# Altium schematic symbol library 4G.SchLib: 74 symbols
Pins are listed as number, name and electrical type; pins without a type are passive.

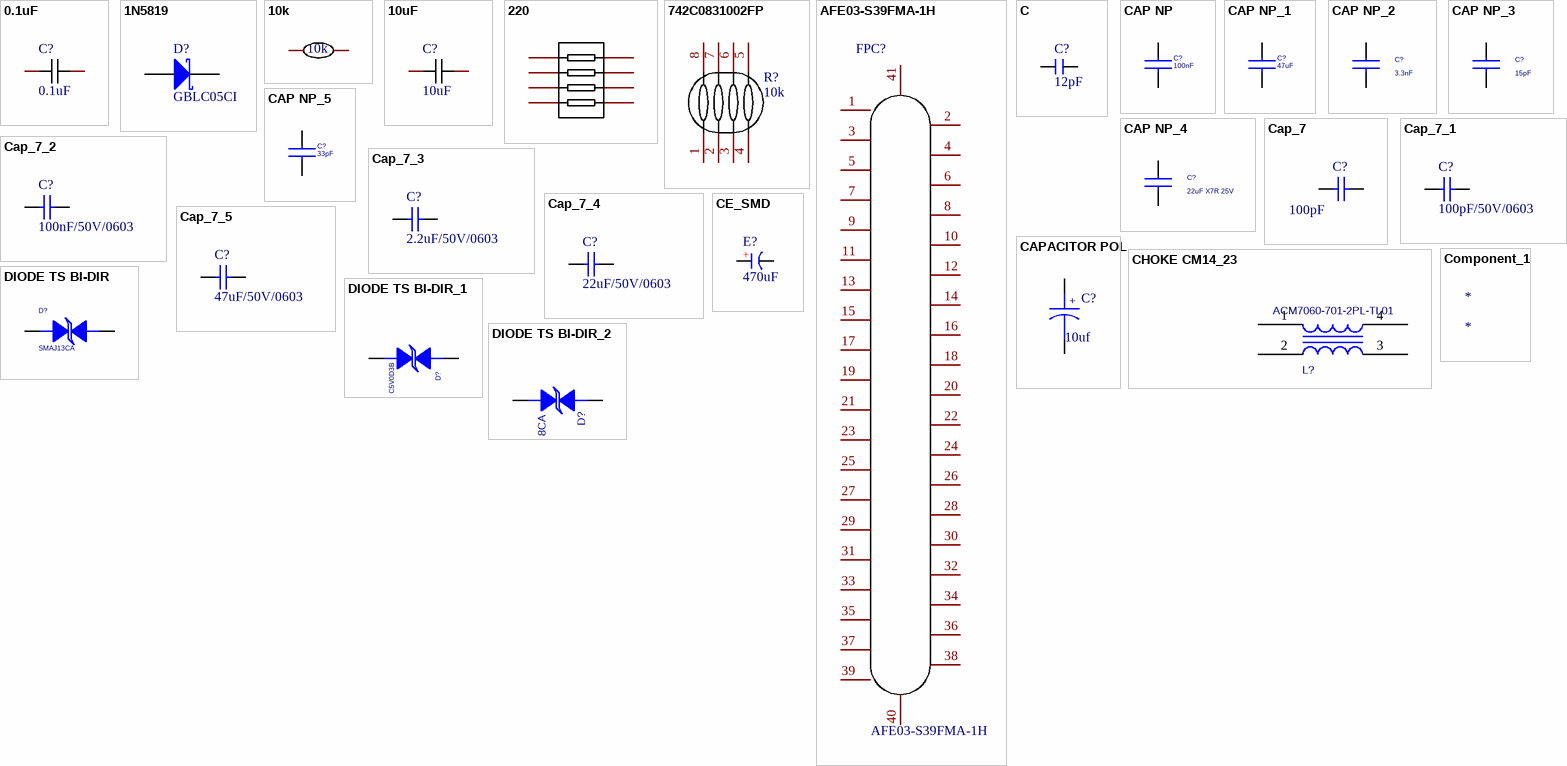
[diagram p0: symbols 0.1uF to DIODE TS BI-DIR_2]

## 0.1uF
designator C?
Add into BOM: yes; Origin Footprint: C0603; Symbol: 0.1uF; Device: 0.1uF; Convert to PCB: yes; Name: 0.1uF
footprint C 0603_L (无极性贴片电容                                       淘宝ID:黄晶宝石)
pins: 1, 2

## 1N5819
designator D?, comment GBLC05CI
肖特基二极管; 淘宝ID: 封装库来自淘宝 ID：黄晶宝石; 属性: 40V/2A; BOM名称: 肖特基二极管; 欢迎光临: https://shop463601444.taobao.com
footprint SOD-323 (1.8x1.3X0.9mm（长宽高，不包括引脚）)
footprint SOD-323 (1.8x1.3X0.9mm（长宽高，不包括引脚）)
pins: 1 A, 2 K

## 10k
designator R?
Symbol: 10k_2; Add into BOM: yes; Origin Footprint: R0603; Name: 10k; Device: 10k; Convert to PCB: yes
footprint R 0603_L (1/10W贴片电阻                 淘宝ID:黄晶宝石)
pins: 1, 2

## 10uF
designator C?
Add into BOM: yes; Origin Footprint: C0805; Name: 10uF; Symbol: 10uF; Device: 10uF; Convert to PCB: yes
footprint C 0603_L (无极性贴片电容                                       淘宝ID:黄晶宝石)
pins: 1, 2

## 220
designator RN?  (value not drawn)
Manufacturer: UniOhm; Manufacturer Part: 4D03WGJ0221T5E; Add into BOM: yes; Origin Footprint: RES-ARRAY-SMD_0603-8P-L3.2-W1.6-BL; Name: 220; Symbol: 220; Device: 220; Convert to PCB: yes; Supplier: LCSC; Supplier Part: C29719; JLCPCB Part Class: Extended Part
footprint RCA-8P4R-0603 (3.2mm*1.6mm*0.6mm(长*宽*厚))
pins: 1, 2, 3, 4, 5, 6, 7, 8

## 742C0831002FP
designator R?  value 10k  (hidden comment: 742C0831002FP)
阻值:10k;精度:±1%;单个元件功率:63mW;温度系数:±200ppm/;电阻器数:4;引脚数:8;; Manufacturer: CTS(西迪斯); Add into BOM: yes; Tolerance: ±1%; Power(Watts): 63mW; Number of Resistors: 4; Symbol: 742C0831002FP; Device: 742C0831002FP; LCSC Part Name: 10k ±1%; Supplier Part: C1848571; Manufacturer Part: 742C0831002FP; Supplier Footprint: 0603; Datasheet: https://atta.szlcsc.com/upload/public/pdf/source/20210503/EA698ADAEE513162139F7667D383C0D0.pdf; Supplier: LCSC; Convert to PCB: yes; Temperature Coefficient: ±200ppm/; Number of Pins: 8; JLCPCB Part Class: Extended Part
footprint RCA-8P4R-0603 (3.2mm*1.6mm*0.6mm(长*宽*厚))
pins: 1, 2, 3, 4, 5, 6, 7, 8

## AFE03-S39FMA-1H
designator FPC?
间距:0.3mm;触点数量:39;锁定特性:翻盖式;安装类型:卧贴;触点类型:下接;; Manufacturer: JS(钜硕电子); Add into BOM: yes; Pitch: 0.3mm; Number of Contacts: 39; Locking Feature: 翻盖式; FFC, FCB Thickness: 0.2mm; Name: AFE03-S39FMA-1H; Symbol: AFE03-S39FMA-1H; Device: AFE03-S39FMA-1H; LCSC Part Name: 0.3mm P数:39 翻盖式 下接; Supplier Part: C262546; Manufacturer Part: AFE03-S39FMA-1H; Supplier Footprint: SMD,P=0.3mm; Datasheet: https://atta.szlcsc.com/upload/public/pdf/source/20180810/C262546_FD07BEB9163FBD4C911947212CF39B0D.pdf; Supplier: LCSC; Convert to PCB: yes; Mounting Type: 卧贴; Contact Type: 下接; Height Above Board: 1mm
footprint FPC-SMD_P0.30-39P_FGS-XJ-H1.0
3D model FPC-SMD_P0.30-39P_FGS-XJ-H1.0
pins: 1, 2, 3, 4, 5, 6, 7, 8, 9, 10, 11, 12, 13, 14, 15, 16, 17, 18, 19, 20, 21, 22, 23, 24, 25, 26, 27, 28, 29, 30, 31, 32, 33, 34, 35, 36, 37, 38, 39, 40, 41

## C
designator C?, comment 12pF
贴片电容; BOM名称: 无极性贴片电容; 淘宝ID: 封装库来自淘宝 ID：黄晶宝石; 联系售后: https://shop463601444.taobao.com
footprint C 0201_L (无极性贴片电容)
footprint C 0402_L (无极性贴片电容)
footprint C 0603_L (无极性贴片电容)
footprint C 0805_L (无极性贴片电容)
footprint C 1206_L (无极性贴片电容)
footprint C 1210_L (无极性贴片电容)
footprint C 1808_L (无极性贴片电容)
footprint C 1812_L (无极性贴片电容)
footprint C 1825_L (无极性贴片电容)
footprint C 2225_L (无极性贴片电容)
footprint C 0201_M (无极性贴片电容)
footprint C 0402_M (无极性贴片电容)
footprint C 0603_M (无极性贴片电容)
footprint C 0805_M (无极性贴片电容)
footprint C 1206_M (无极性贴片电容)
footprint C 1210_M (无极性贴片电容)
footprint C 1808_M (无极性贴片电容)
footprint C 1812_M (无极性贴片电容)
footprint C 1825_M (无极性贴片电容)
footprint C 2225_M (无极性贴片电容)
pins: 1, 2

## CAP NP
designator C?, comment 100nF
Part Number: CAPC0402; ROOM: Modem
footprint C 0603_L (无极性贴片电容                                       淘宝ID:黄晶宝石)
pins: 1, 2

## CAP NP_1
designator C?, comment 47uF
Part Number: CAPC0805; ROOM: Modem
footprint C 0603_L (无极性贴片电容                                       淘宝ID:黄晶宝石)
pins: 1, 2

## CAP NP_2
designator C?, comment 3.3nF
Part Number: CAPC0402; ROOM: DC/DC_3V8
footprint C 0603_L (无极性贴片电容                                       淘宝ID:黄晶宝石)
pins: 1, 2

## CAP NP_3
designator C?, comment 15pF
Part Number: CAPC0402; ROOM: DC/DC_3V8
footprint C 0603_L (无极性贴片电容                                       淘宝ID:黄晶宝石)
pins: 1, 2

## CAP NP_4
designator C?, comment 22uF X7R 25V
Part Number: CAPC0805
footprint C 0603_L (无极性贴片电容                                       淘宝ID:黄晶宝石)
footprint C 1210_L (无极性贴片电容                                淘宝ID:黄晶宝石)
pins: 1, 2

## CAP NP_5
designator C?, comment 33pF
Part Number: CAPC0402; ROOM: Modem
footprint C 0603_L (无极性贴片电容                                       淘宝ID:黄晶宝石)
footprint C 0603_L
pins: 1, 2

## Cap_7
designator C?, comment 100pF
Capacitor; Value: 0.1uF/25V/X5R; Published: 8-Jun-2000; LatestRevisionDate: 17-Jul-2002; LatestRevisionNote: Re-released for DXP Platform.; PackageReference: RAD-0.3; Publisher: Altium Limited; PackageDescription: Radial Cap, Thru-Hole; 2 Leads; 0.3 in Pin Spacing
simulation model CAP (Capacitor)
signal-integrity model Cap
footprint C 0603_L (无极性贴片电容                                       淘宝ID:黄晶宝石)
pins: 1, 2

## Cap_7_1
designator C?, comment 100pF/50V/0603
Capacitor; Value: 0.1uF/25V/X5R; Published: 8-Jun-2000; LatestRevisionDate: 17-Jul-2002; LatestRevisionNote: Re-released for DXP Platform.; PackageReference: RAD-0.3; Publisher: Altium Limited; PackageDescription: Radial Cap, Thru-Hole; 2 Leads; 0.3 in Pin Spacing
simulation model CAP (Capacitor)
signal-integrity model Cap
footprint C 0603_L (无极性贴片电容                                       淘宝ID:黄晶宝石)
pins: 1, 2

## Cap_7_2
designator C?, comment 100nF/50V/0603
Capacitor; Value: 0.1uF/25V/X5R; Published: 8-Jun-2000; LatestRevisionDate: 17-Jul-2002; LatestRevisionNote: Re-released for DXP Platform.; PackageReference: RAD-0.3; Publisher: Altium Limited; PackageDescription: Radial Cap, Thru-Hole; 2 Leads; 0.3 in Pin Spacing
simulation model CAP (Capacitor)
signal-integrity model Cap
footprint C 0603_L (无极性贴片电容                                       淘宝ID:黄晶宝石)
pins: 1, 2

## Cap_7_3
designator C?, comment 2.2uF/50V/0603
Capacitor; Value: 0.1uF/25V/X5R; Published: 8-Jun-2000; LatestRevisionDate: 17-Jul-2002; LatestRevisionNote: Re-released for DXP Platform.; PackageReference: RAD-0.3; Publisher: Altium Limited; PackageDescription: Radial Cap, Thru-Hole; 2 Leads; 0.3 in Pin Spacing
simulation model CAP (Capacitor)
signal-integrity model Cap
footprint C 0603_L (无极性贴片电容                                       淘宝ID:黄晶宝石)
pins: 1, 2

## Cap_7_4
designator C?, comment 22uF/50V/0603
Capacitor; Value: 0.1uF/25V/X5R; Published: 8-Jun-2000; LatestRevisionDate: 17-Jul-2002; LatestRevisionNote: Re-released for DXP Platform.; PackageReference: RAD-0.3; Publisher: Altium Limited; PackageDescription: Radial Cap, Thru-Hole; 2 Leads; 0.3 in Pin Spacing
simulation model CAP (Capacitor)
signal-integrity model Cap
footprint C 0603_L (无极性贴片电容                                       淘宝ID:黄晶宝石)
pins: 1, 2

## Cap_7_5
designator C?, comment 47uF/50V/0603
Capacitor; Value: 0.1uF/25V/X5R; Published: 8-Jun-2000; LatestRevisionDate: 17-Jul-2002; LatestRevisionNote: Re-released for DXP Platform.; PackageReference: RAD-0.3; Publisher: Altium Limited; PackageDescription: Radial Cap, Thru-Hole; 2 Leads; 0.3 in Pin Spacing
simulation model CAP (Capacitor)
signal-integrity model Cap
footprint C 0603_L (无极性贴片电容                                       淘宝ID:黄晶宝石)
footprint C 0805_L (无极性贴片电容                                        淘宝ID:黄晶宝石)
footprint C 1210_L (无极性贴片电容                                淘宝ID:黄晶宝石)
pins: 1, 2

## CAPACITOR POL
designator C?, comment 10uf
Capacitor
footprint C 1210_M (无极性贴片电容                                         淘宝ID:黄晶宝石)
pins: 1, 2
text: +

## CE_SMD
designator E?, comment 470uF
贴片电解电容; 版权归属: 封装库来自淘宝 ID：黄晶宝石; BOM名称: 贴片电解电容; 联系售后: https://shop463601444.taobao.com
footprint CM A(3*5.4) (贴片电解电容，直径3mm，高5.4mm)
footprint CM B(4*5.4) (贴片电解电容，直径4mm，高5.4mm)
footprint CM C(5*5.4) (贴片电解电容，直径5mm，高5.4mm)
footprint CM D(6.3*5.4) (贴片电解电容，直径6.3mm，高5.4mm)
footprint CM D(6.3*7.7) (贴片电解电容，直径6.3mm，高7.7mm)
footprint CM E(8*6.2) (贴片电解电容，直径8mm，高6.2mm)
footprint CM E(8*10.2) (贴片电解电容，直径8mm，高10.2mm)
footprint CM F(10*10.2) (贴片电解电容，直径10mm，高10.2mm)
footprint CM G(12.5*13.5) (贴片电解电容，直径12.5mm，高13.5mm)
footprint CM G(12.5*16) (贴片电解电容，直径12.5mm，高16mm)
footprint CM H(16*16.5) (贴片电解电容，直径16mm，高16.5mm)
pins: 1 A, 2 K
text: +

## CHOKE CM14_23
designator L?, comment ACM7060-701-2PL-TL01
ROOM: VIN; Part Number: ACM7060-701-2PL-TL01
footprint ACM7060
pins: 1, 2, 3 4, 4 3

## Component_1
designator *

## DIODE TS BI-DIR
designator D?, comment SMAJ13CA
ROOM: VIN; Part Number: SMAJ13CA
footprint sma
pins: 1, 2

## DIODE TS BI-DIR_1
designator D?, comment ESDLC5V0D3B
Part Number: SMAJ13CA; ROOM: VIN
footprint SOD-323 (1.8x1.3X0.9mm（长宽高，不包括引脚）)
pins: 1, 2

## DIODE TS BI-DIR_2
designator D?, comment SMBJ18CA
这个很容易坏; Part Number: SMAJ13CA; ROOM: VIN
footprint SMA-1
footprint smb (4.7*3.9*2.2mm(长宽高，不包括引脚）)
pins: 1, 2

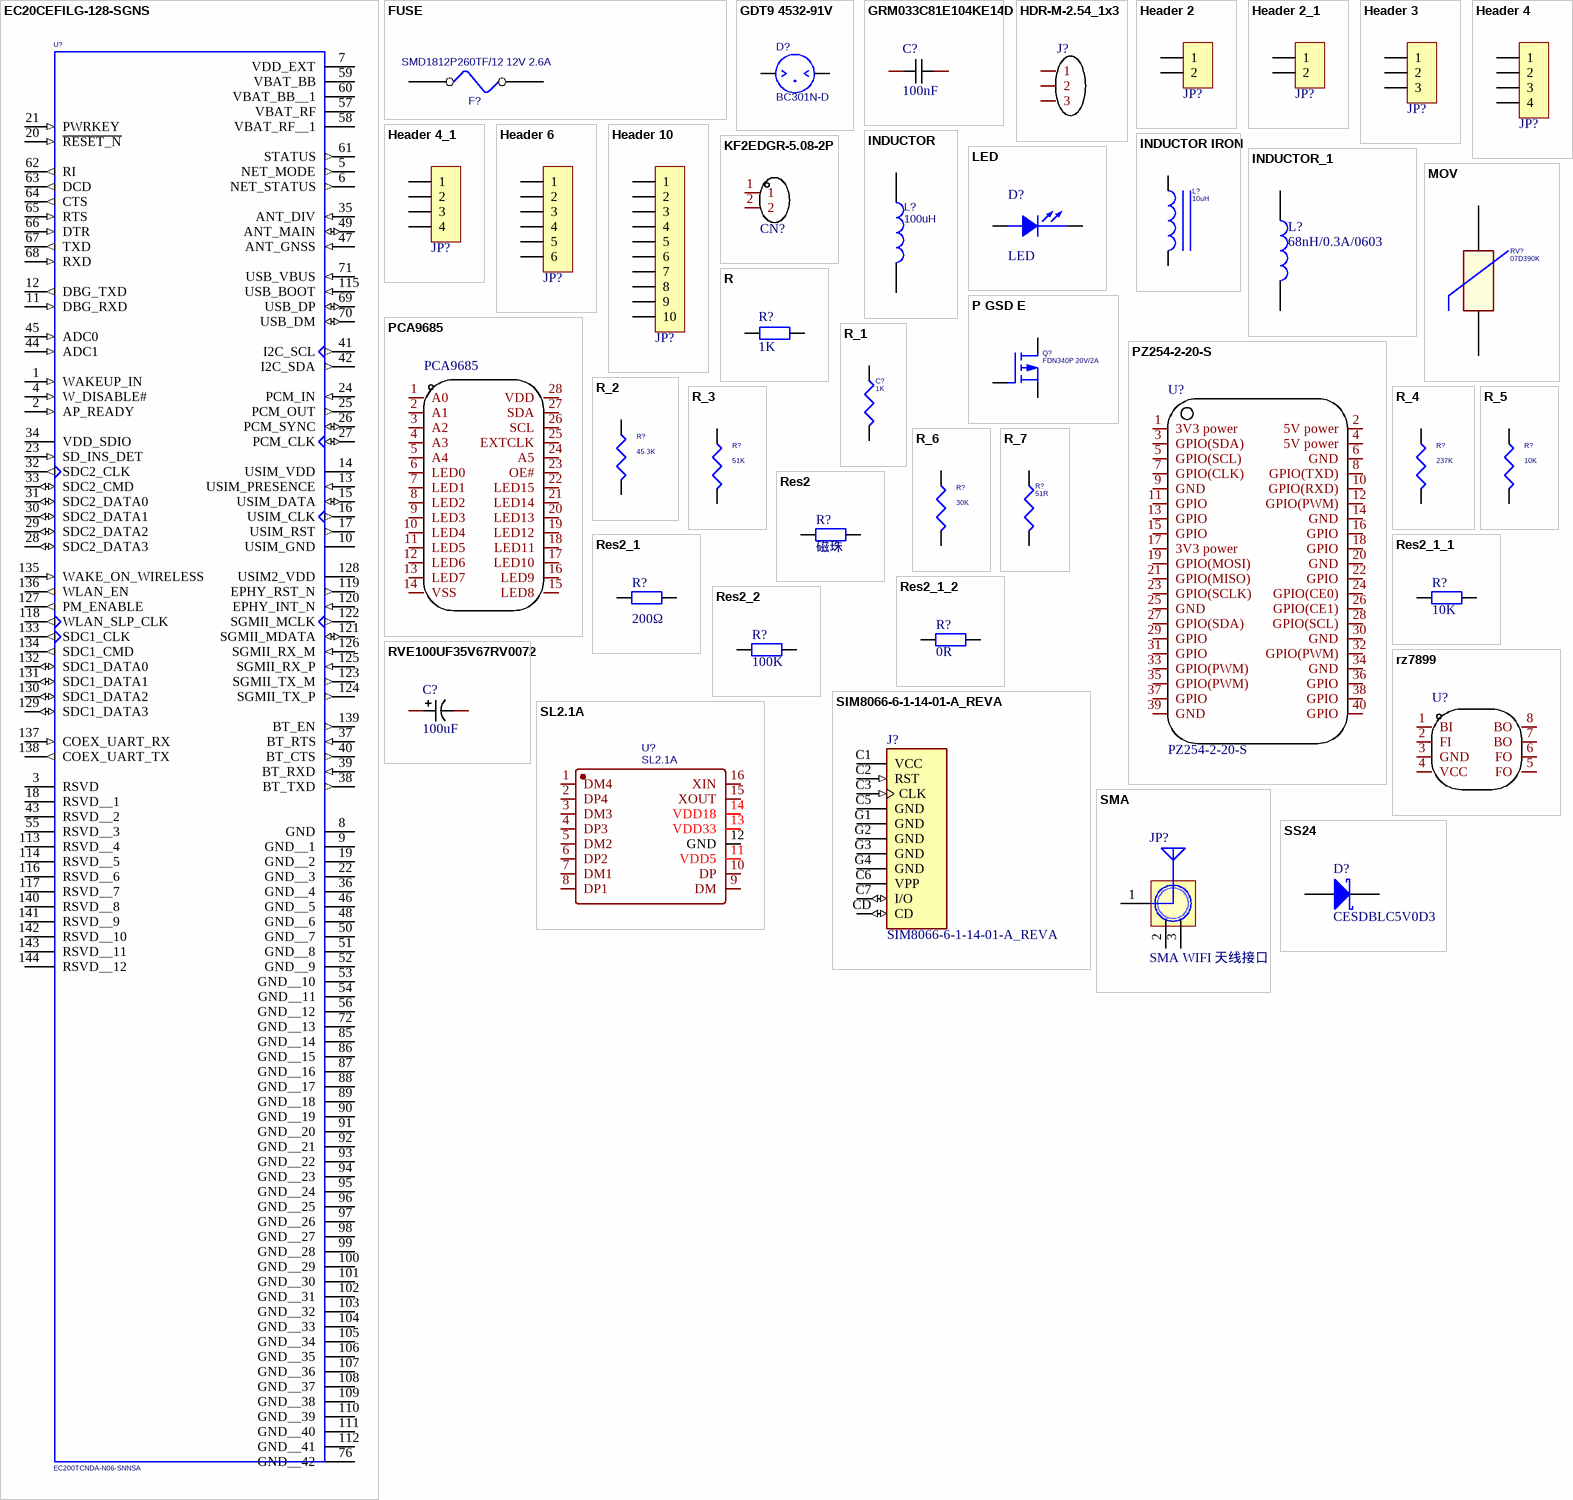
[diagram p1: symbols EC20CEFILG-128-SGNS to SS24]

## EC20CEFILG-128-SGNS
designator U?, comment EC200TCNDA-N06-SNNSA
Quectel EC25 is a series of LTE Cat 4 module optimized specially for M2M and IoT applications.; Part Number: EC20CEFILG-128-SGNS; OriginalSymbolOrigin: (-90000,250000); MP: EC25-AU; ROOM: Modem; Price: None; Package: None; MF: Quectel; Availability: Unavailable
footprint EC200U (贴片电解电容，直径6.3mm，高5.4mm)
pins: 1 WAKEUP_IN (in), 2 AP_READY (in), 3 RSVD, 4 W_DISABLE# (in), 5 NET_MODE (out), 6 NET_STATUS (out), 7 VDD_EXT (power), 8 GND (power), 9 GND__1 (power), 10 USIM_GND (power), 11 DBG_RXD (in), 12 DBG_TXD (out), 13 USIM_PRESENCE (in), 14 USIM_VDD (power), 15 USIM_DATA (io), 16 USIM_CLK (out), 17 USIM_RST (out), 18 RSVD__1, 19 GND__2 (power), 20 ~{RESET_N} (in), 21 PWRKEY (in), 22 GND__3 (power), 23 SD_INS_DET (in), 24 PCM_IN (in), 25 PCM_OUT (out), 26 PCM_SYNC (io), 27 PCM_CLK (io), 28 SDC2_DATA3 (io), 29 SDC2_DATA2 (io), 30 SDC2_DATA1 (io), 31 SDC2_DATA0 (io), 32 SDC2_CLK (out), 33 SDC2_CMD (io), 34 VDD_SDIO (power), 35 ANT_DIV (in), 36 GND__4 (power), 37 BT_RTS (in), 38 BT_TXD (out), 39 BT_RXD (in), 40 BT_CTS (out), 41 I2C_SCL (out), 42 I2C_SDA (out), 43 RSVD__2, 44 ADC1 (in), 45 ADC0 (in), 46 GND__5 (power), 47 ANT_GNSS (in), 48 GND__6 (power), 49 ANT_MAIN (io), 50 GND__7 (power), 51 GND__8 (power), 52 GND__9 (power), 53 GND__10 (power), 54 GND__11 (power), 55 RSVD__3, 56 GND__12 (power), 57 VBAT_RF (power), 58 VBAT_RF__1 (power), 59 VBAT_BB (power), 60 VBAT_BB__1 (power), 61 STATUS (out), 62 RI (out), 63 DCD (out), 64 CTS (out), 65 RTS (in), 66 DTR (in), 67 TXD (out), 68 RXD (in), 69 USB_DP (io), 70 USB_DM (io), 71 USB_VBUS (in), 72 GND__13 (power), 76 GND__42 (power), 85 GND__14 (power), 86 GND__15 (power), 87 GND__16 (power), 88 GND__17 (power), 89 GND__18 (power), 90 GND__19 (power), 91 GND__20 (power), 92 GND__21 (power), 93 GND__22 (power), 94 GND__23 (power), 95 GND__24 (power), 96 GND__25 (power), 97 GND__26 (power), 98 GND__27 (power), 99 GND__28 (power), 100 GND__29 (power), 101 GND__30 (power), 102 GND__31 (power), 103 GND__32 (power), 104 GND__33 (power), 105 GND__34 (power), 106 GND__35 (power), 107 GND__36 (power), 108 GND__37 (power), 109 GND__38 (power), 110 GND__39 (power), 111 GND__40 (power), 112 GND__41 (power), 113 RSVD__4, 114 RSVD__5, 115 USB_BOOT (in), 116 RSVD__6, 117 RSVD__7, 118 WLAN_SLP_CLK (out), 119 EPHY_RST_N (out), 120 EPHY_INT_N (in), 121 SGMII_MDATA (io), 122 SGMII_MCLK (out), 123 SGMII_TX_M (out), 124 SGMII_TX_P (out), 125 SGMII_RX_P (in), 126 SGMII_RX_M (in), 127 PM_ENABLE (out), 128 USIM2_VDD (power), 129 SDC1_DATA3 (io), 130 SDC1_DATA2 (io), 131 SDC1_DATA1 (io), 132 SDC1_DATA0 (io), 133 SDC1_CLK (out), 134 SDC1_CMD (out), 135 WAKE_ON_WIRELESS (in), 136 WLAN_EN (out), 137 COEX_UART_RX (in), 138 COEX_UART_TX (out), 139 BT_EN (out), 140 RSVD__8, 141 RSVD__9, 142 RSVD__10, 143 RSVD__11, 144 RSVD__12

## FUSE
designator F?, comment SMD1812P260TF/12 12V 2.6A
ROOM: VIN; Part Number: SMD1812P260TF/12
footprint resc4532x110n
footprint FU 1812 (贴片保险丝          淘宝ID:黄晶宝石)
pins: 1, 2

## GDT9 4532-91V
designator D?, comment BC301N-D
footprint GDT9-4532-91V-LF
footprint GDT-SMD
footprint GDT-SMD
pins: 1, 2

## GRM033C81E104KE14D
designator C?  value 100nF  (hidden comment: GRM033C81E104KE14D)
Manufacturer: muRata(村田); Add into BOM: yes; Tolerance: ±10%; Voltage Rated: 25V; Temperature Coefficient: X6S; Symbol: GRM033C81E104KE14D; Device: GRM033C81E104KE14D; LCSC Part Name: 100nF ±10% 25V; Supplier Part: C181047; Manufacturer Part: GRM033C81E104KE14D; Supplier Footprint: 0201; JLCPCB Part Class: Extended Part; Datasheet: https://atta.szlcsc.com/upload/public/pdf/source/20190505/C181047_36981D841DC23B79CCB6797818D1B5CF.pdf; Supplier: LCSC; Convert to PCB: yes
footprint C 0603_L (无极性贴片电容                                       淘宝ID:黄晶宝石)
pins: 1, 2

## HDR-M-2.54_1x3
designator J?  (value not drawn)
Add into BOM: yes; Name: HDR-M-2.54_1x3; Symbol: HDR-M-2.54_1x3; Device: HDR-M-2.54_1x3; Convert to PCB: yes; Origin Footprint: HDR-M-2.54_1X3; Supplier Part: C180248; Supplier: LCSC
footprint HDR2.54-LI-3P (排针，3脚)
pins: 1, 2, 3

## Header 2
designator JP?, comment HDR-1X2  (value not drawn)
2P接插件; 版权归属: 封装库来自淘宝 ID：黄晶宝石; BOM名称: 2P接插件; 联系售后: https://shop463601444.taobao.com
footprint XH2.54-WI-2P (接插件，2P)
footprint XH2.54-LI-2P (接插件，2P)
footprint HDR2.54-LI-2P (排针，2脚)
footprint HDR2.54-M-LI-2P (排母，2脚)
footprint HDR2.54-WI-2P (弯脚排针，2脚)
footprint HDR2.54-WS-2P (2P卧式贴片排针2.54)
footprint HDR2.54-Y-LI-2P (圆孔排母，2脚)
footprint HDR2.54-M-WS-2P (2P卧式贴片排母2.54)
footprint KF2510-LI-2P (接插件/2A)
footprint XH2.54-WS-2P (长：10mm，宽：8mm，高：6.1mm)
footprint XH2.54-LS-2P (长：10mm，宽：6mm，高：8.3mm)
footprint KF2EDGK-2.54-LI-2P (长：6.93mm，宽：8.1mm，高：10.1mm)
footprint KF2EDGK-2.54-WI-2P (长：6.93mm，宽：10.1mm，高：8.1mm)
pins: 1, 2

## Header 2_1
designator JP?, comment HDR-1X2  (value not drawn)
2P接插件; 版权归属: 封装库来自淘宝 ID：黄晶宝石; BOM名称: 2P接插件; 联系售后: https://shop463601444.taobao.com
footprint MX 1.25-WI-2P (长：4.25mm，宽：1.8mm，高：3.3mm)
footprint MX 1.25-LI-2P (长：4.25mm，宽：3.2mm，高：4.2mm)
footprint MX 1.25-WS-2P (长：7.65mm，宽：4.2mm，高：3.4mm)
footprint MX 1.25-LS-2P (长：7.25m，宽：3.7mm，高：4.7mm)
footprint GH1.25-2P
footprint XH2.54-LI-2P (接插件，2P  淘宝ID:黄晶宝石   店铺网址:https://shop463601444.taobao.com)
pins: 1, 2

## Header 3
designator JP?, comment HDR-1X3  (value not drawn)
3P接插件; 版权归属: 封装库来自淘宝 ID：黄晶宝石; BOM名称: 3P接插件; 学习资源: https://shop463601444.taobao.com
footprint XH2.54-WI-3P (接插件，3P)
footprint XH2.54-LI-3P (接插件，3P)
footprint HDR2.54-LI-3P (排针，3脚)
footprint HDR2.54-M-LI-3P (排母，3脚)
footprint HDR2.54-WI-3P (弯脚排针，3脚)
footprint HDR2.54-WS-3P (3P卧式贴片排针2.54)
footprint HDR2.54-Y-LI-3P (圆孔排母，3脚)
footprint HDR2.54-M-WS-3P (3P卧式贴片排母2.54)
footprint KF2510-LI-3P (接插件/2A)
footprint XH2.54-WS-3P (长：12.5mm，宽：8mm，高：6.1mm)
footprint XH2.54-LS-3P (长：12.5mm，宽：6mm，高：8.3mm)
footprint KF2EDGK-2.54-LI-3P (长：9.52mm，宽：8.1mm，高：10.1mm)
footprint KF2EDGK-2.54-WI-3P (长：9.52mm，宽：10.1mm，高：8.1mm)
footprint hole - LIDAR
footprint HOLE - LIDAR - DUPLICATE
pins: 1, 2, 3

## Header 4
designator JP?, comment HDR-1X4  (value not drawn)
4P接插件; 版权归属: 封装库来自淘宝 ID：黄晶宝石; BOM名称: 4P接插件; 学习资源: https://shop463601444.taobao.com
footprint XH2.54-WI-4P (接插件，4P)
footprint XH2.54-LI-4P (接插件，4P)
footprint HDR2.54-LI-4P (排针，4脚)
footprint HDR2.54-M-LI-4P (排母，4脚)
footprint HDR2.54-WI-4P (弯脚排针，4脚)
footprint HDR2.54-WS-4P (4P卧式贴片排针2.54)
footprint HDR2.54-Y-LI-4P (圆孔排母，4脚)
footprint HDR2.54-M-WS-4P (4P卧式贴片排母2.54)
footprint KF2510-LI-4P (接插件/2A)
footprint XH2.54-WS-4P (长：15mm，宽：8mm，高：6.1mm)
footprint XH2.54-LS-4P (长：15mm，宽：6mm，高：8.3mm)
footprint KF2EDGK-2.54-LI-4P (长：12.06mm，宽：8.1mm，高：10.1mm)
footprint KF2EDGK-2.54-WI-4P (长：12.06mm，宽：10.1mm，高：8.1mm)
footprint MX 1.25-LI-4P (长：6.75mm，宽：3.2mm，高：4.2mm        淘宝ID:黄晶宝石)
pins: 1, 2, 3, 4

## Header 4_1
designator JP?, comment HDR-1X4  (value not drawn)
4P接插件; 联系售后: 封装库来自淘宝 ID：黄晶宝石; BOM名称: 4P接插件; 学习资源: https://shop463601444.taobao.com
footprint MX 1.25-WI-4P (长：6.75mm，宽：1.8mm，高：3.3mm)
footprint MX 1.25-LI-4P (长：6.75mm，宽：3.2mm，高：4.2mm)
footprint MX 1.25-WS-4P (长：10.15mm，宽：4.2mm，高：3.4mm)
footprint MX 1.25-LS-4P (长：9.75m，宽：3.7mm，高：4.7mm)
footprint GH1.25-4P
pins: 1, 2, 3, 4

## Header 6
designator JP?, comment HDR-1X6  (value not drawn)
6P接插件; 版权归属: 封装库来自淘宝 ID：黄晶宝石; BOM名称: 6P接插件; 学习资源: https://shop463601444.taobao.com
footprint HDR2.54-LI-6P (排针，6脚)
pins: 1, 2, 3, 4, 5, 6

## Header 10
designator JP?, comment HDR-1X10  (value not drawn)
10P接插件; 版权归属: 源创客; BOM名称: 10P接插件; 学习资源: www.ooocke.com
footprint XH2.54-WI-10P (接插件，10P)
footprint XH2.54-LI-10P (接插件，10P)
footprint HDR2.54-LI-10P (排针，10脚)
footprint HDR2.54-M-LI-10P (排母，10脚)
footprint HDR2.54-WI-10P (弯脚排针，10脚)
footprint HDR2.54-WS-10P (10P卧式贴片排针2.54)
footprint HDR2.54-Y-LI-10P (圆孔排母，10脚)
footprint HDR2.54-M-WS-10P (10P卧式贴片排母2.54)
footprint KF2510-LI-10P (接插件/2A)
footprint XH2.54-WS-10P (长：30mm，宽：8mm，高：6.1mm)
footprint XH2.54-LS-10P (长：30mm，宽：6mm，高：8.3mm)
footprint KF2EDGK-2.54-LI-10P (长：27.3mm，宽：8.1mm，高：10.1mm)
footprint KF2EDGK-2.54-WI-10P (长：27.3mm，宽：10.1mm，高：8.1mm)
pins: 1, 2, 3, 4, 5, 6, 7, 8, 9, 10

## INDUCTOR
designator L?, comment 100uH
footprint IND-SMD_L12.3-W12.3
footprint CD104
pins: 1, 2

## INDUCTOR IRON
designator L?, comment 10uH
Part Number: MHCC10040-100M-R7; ROOM: DC/DC_3V8
footprint l-p-w10_6x10_6-h3_1-smt
footprint CDRH125 (12*12*5mm（长宽高）)
footprint CDRH73 (7.3*7.3*3.4mm（长宽高）)
pins: 1, 2

## INDUCTOR_1
designator L?, comment 68nH/0.3A/0603
footprint L 0603 (小功率贴片电感        淘宝ID:黄晶宝石)
pins: 1, 2

## KF2EDGR-5.08-2P
designator CN?  (value not drawn)
连接器类型:板端/插座-开口;间距:5.08mm;排数:1;每排PIN数:2;安装方式:弯针;额定电流:15A;额定电压:300V;线规 - AWG:-;线规 - mm?:-;工作温度范围:-40~+105;颜色:绿色;; Manufacturer: KEFA(科发); Add into BOM: yes; Pitch: 5.08mm; Number of PINs Per Row: 2; Current Rating (Max): 15A; Voltage Rating (Max): 300V; Symbol: KF2EDGR-5.08-2P; Device: KF2EDGR-5.08-2P; LCSC Part Name: 5.08mm 排数:1 每排P数:2 弯针; Supplier Part: C441204; Manufacturer Part: KF2EDGR-5.08-2P; Supplier Footprint: P=5.08mm; Datasheet: https://atta.szlcsc.com/upload/public/pdf/source/20191023/C441204_556DD033724E9900771EE99FCEEECD8F.pdf; Supplier: LCSC; Convert to PCB: yes; Connector Type: 板端/插座-开口; Number of Rows: 1; Mounting Style: 弯针; Wire Gauge - AWG: -; Wire Gauge - mm?: -; Operating Temperature Range: -40~+105; Color: 绿色; JLCPCB Part Class: Extended Part
footprint XH2.54-LI-2P (接插件，2P  淘宝ID:黄晶宝石   店铺网址:https://shop463601444.taobao.com)
pins: 1, 2

## LED
designator D?
Part Number: LEDC0603; PCB Footprint: ledc1608x55n
footprint LED 0603B (蓝色0603LED                             淘宝ID:黄晶宝石)
footprint LED0603_G (绿色0603LED)
footprint LED 0603B (蓝色0603LED                             淘宝ID:黄晶宝石)
pins: 1 CATHODE, 2 ANODE

## MOV
designator RV?, comment 07D390K
Part Number: 07D390K
footprint VDR 9D-4.5 (压敏电阻9mm*4.5mm(直径*厚度）          淘宝ID:黄晶宝石)
pins: 1, 2

## P GSD E
designator Q?, comment FDN340P 20V/2A
ROOM: Sensor; Part Number: FDN340P
footprint SOT23-3L (3x1.3x1mm(长宽高)    封装库来自淘宝卖家 ID：黄晶宝石)
pins: 1 G, 2 S, 3 D

## PCA9685
designator U?
Manufacturer: NXP; Manufacturer Part: PCA9685PW/Q900,118; Add into BOM: yes; Origin Footprint: TSSOP-28_L9.7-W4.4-P0.65-LS6.4-BL; Name: PCA9685; Symbol: PCA9685; Device: PCA9685; Convert to PCB: yes; Supplier: LCSC; Supplier Part: C92206; JLCPCB SMD: Yes
footprint TSSOP-28_L9.7-W4.4-P0.65-LS6.4-TL
pins: 1 A0, 2 A1, 3 A2, 4 A3, 5 A4, 6 LED0, 7 LED1, 8 LED2, 9 LED3, 10 LED4, 11 LED5, 12 LED6, 13 LED7, 14 VSS, 15 LED8, 16 LED9, 17 LED10, 18 LED11, 19 LED12, 20 LED13, 21 LED14, 22 LED15, 23 OE#, 24 A5, 25 EXTCLK, 26 SCL, 27 SDA, 28 VDD

## PZ254-2-20-S
designator U?
间距：2.54mm 总PIN位数：40 排数：2 插针结构：2x20P  安装类型：立贴 方针：方针 额定电流：3A 额定电压：250V 配合针长度：6mm 塑高：2.5mm  颜色：黑色 双排立式贴片排针; Manufacturer: HCTL(华灿天禄); Add into BOM: yes; Name: PZ254-2-20-S; Symbol: PZ254-2-20-S; Device: PZ254-2-20-S; LCSC Part Name: 2.54mm 2x20P排针; Supplier Part: C3294478; Manufacturer Part: PZ254-2-20-S; Supplier Footprint: SMD,P=2.54mm; JLCPCB Part Class: Extended Part; Datasheet: https://atta.szlcsc.com/upload/public/pdf/source/20220630/EB7B4B2B4E0FCA0DCBE3ABD95BC76C22.pdf; Supplier: LCSC; Convert to PCB: yes
footprint HDR-SMD_40P-P2.54-V-M-R2-C20-S7.4
3D model HDR-SMD_40P-P2.54-V-M-R2-C20-S7.4
footprint HDR-SMD_40P-P2.54-V-M-R2-C20-S7.4
footprint HDR-SMD_40P-P2.54-V-M-R2-C20-S7.4
pins: 1 3V3 power, 2 5V power, 3 GPIO(SDA), 4 5V power, 5 GPIO(SCL), 6 GND, 7 GPIO(CLK), 8 GPIO(TXD), 9 GND, 10 GPIO(RXD), 11 GPIO, 12 GPIO(PWM), 13 GPIO, 14 GND, 15 GPIO, 16 GPIO, 17 3V3 power, 18 GPIO, 19 GPIO(MOSI), 20 GND, 21 GPIO(MISO), 22 GPIO, 23 GPIO(SCLK), 24 GPIO(CE0), 25 GND, 26 GPIO(CE1), 27 GPIO(SDA), 28 GPIO(SCL), 29 GPIO, 30 GND, 31 GPIO, 32 GPIO(PWM), 33 GPIO(PWM), 34 GND, 35 GPIO(PWM), 36 GPIO, 37 GPIO, 38 GPIO, 39 GND, 40 GPIO

## R
designator R?, comment 1K
贴片电阻; 当前库版本V2022.10.7 @黄晶宝石: 最新版本发布https://shop463601444.taobao.com; BOM名称: 贴片电阻
footprint R0201_L (1/20W贴片电阻)
footprint R0402_L (1/16W贴片电阻)
footprint R0603_L (1/10W贴片电阻)
footprint R0805_L (1/8W贴片电阻)
footprint R1206_L (1/4W贴片电阻)
footprint R1210_L (1/3W贴片电阻)
footprint R1812_L (1/2W贴片电阻)
footprint R2010_L (3/4W贴片电阻)
footprint R2512_L (1W贴片电阻)
footprint R0201_M (1/20W贴片电阻)
footprint R0402_M (1/16W贴片电阻)
footprint R0603_M (1/10W贴片电阻)
footprint R0805_M (1/8W贴片电阻)
footprint R1206_M (1/4W贴片电阻)
footprint R1210_M (1/3W贴片电阻)
footprint R1812_M (1/2W贴片电阻)
footprint R2010_M (3/4W贴片电阻)
footprint R2512_M (1W贴片电阻)
footprint R0201_NS (1/20W贴片电阻-无丝印)
footprint R0402_NS (1/16W贴片电阻-无丝印)
footprint R01005_NS (1/32W贴片电阻-无丝印)
footprint R0603_NS (1/10W贴片电阻-无丝印)
footprint R0805_NS (1/8W贴片电阻-无丝印)
footprint R1206_NS (1/4W贴片电阻-无丝印)
footprint R1210_NS (1/3W贴片电阻)
footprint R 0603_L (1/10W贴片电阻                 淘宝ID:黄晶宝石)
pins: 1, 2

## R_1
designator C?, comment 1K
Part Number: RESC0402; ROOM: Modem
footprint R 0603_L (1/10W贴片电阻                 淘宝ID:黄晶宝石)
pins: 1, 2

## R_2
designator R?, comment 45.3K
Part Number: RESC0402; ROOM: DC/DC_3V8
footprint R 0603_L (1/10W贴片电阻                 淘宝ID:黄晶宝石)
pins: 1, 2

## R_3
designator R?, comment 51K
Part Number: RESC0402; ROOM: DC/DC_3V8
footprint R 0603_L (1/10W贴片电阻                 淘宝ID:黄晶宝石)
pins: 1, 2

## R_4
designator R?, comment 237K
Part Number: RESC0402; ROOM: DC/DC_3V8
footprint R 0603_L (1/10W贴片电阻                 淘宝ID:黄晶宝石)
pins: 1, 2

## R_5
designator R?, comment 10K
Part Number: RESC0402; ROOM: DC/DC_3V8
footprint R 0603_L (1/10W贴片电阻                 淘宝ID:黄晶宝石)
pins: 1, 2

## R_6
designator R?, comment 30K
Part Number: RESC0402; ROOM: DC/DC_3V8
footprint R 0603_L (1/10W贴片电阻                 淘宝ID:黄晶宝石)
pins: 1, 2

## R_7
designator R?, comment 51R
Part Number: RESC0402; ROOM: Modem
footprint R 0603_L (1/10W贴片电阻                 淘宝ID:黄晶宝石)
footprint R 0603_L (1/10W贴片电阻                 淘宝ID:黄晶宝石)
pins: 1, 2

## Res2
designator R?, comment value 磁珠  (hidden comment: 0R)
Resistor; Published: 8-Jun-2000; LatestRevisionDate: 17-Jul-2002; LatestRevisionNote: Re-released for DXP Platform.; PackageReference: AXIAL-0.4; Publisher: Altium Limited; PackageDescription: Axial Device, Thru-Hole; 2 Leads; 0.4 in Pin Spacing
simulation model RESISTOR (Resistor)
signal-integrity model Res
footprint R 0603_M (1/10W贴片电阻                             淘宝ID:黄晶宝石)
footprint R 0603_M (1/10W贴片电阻                             淘宝ID:黄晶宝石)
footprint R0603_L
footprint R 0603_L (1/10W贴片电阻                 淘宝ID:黄晶宝石)
pins: 1, 2

## Res2_1
designator R?, comment 200Ω
Resistor; Published: 8-Jun-2000; LatestRevisionDate: 17-Jul-2002; LatestRevisionNote: Re-released for DXP Platform.; PackageReference: AXIAL-0.4; Publisher: Altium Limited; PackageDescription: Axial Device, Thru-Hole; 2 Leads; 0.4 in Pin Spacing; Value: 200Ω
simulation model RESISTOR (Resistor)
signal-integrity model Res
footprint R 0603_L (1/10W贴片电阻                 淘宝ID:黄晶宝石)
pins: 1, 2

## Res2_1_1
designator R?, comment 10K
Resistor; Value: 200Ω; Published: 8-Jun-2000; LatestRevisionDate: 17-Jul-2002; LatestRevisionNote: Re-released for DXP Platform.; PackageReference: AXIAL-0.4; Publisher: Altium Limited; PackageDescription: Axial Device, Thru-Hole; 2 Leads; 0.4 in Pin Spacing
simulation model RESISTOR (Resistor)
signal-integrity model Res
footprint R 0603_L (1/10W贴片电阻                 淘宝ID:黄晶宝石)
pins: 1, 2

## Res2_1_2
designator R?, comment 0R
Resistor; Value: 200Ω; Published: 8-Jun-2000; LatestRevisionDate: 17-Jul-2002; LatestRevisionNote: Re-released for DXP Platform.; PackageReference: AXIAL-0.4; Publisher: Altium Limited; PackageDescription: Axial Device, Thru-Hole; 2 Leads; 0.4 in Pin Spacing
simulation model RESISTOR (Resistor)
signal-integrity model Res
footprint R 0603_L (1/10W贴片电阻                 淘宝ID:黄晶宝石)
pins: 1, 2

## Res2_2
designator R?, comment 100K
Resistor; Published: 8-Jun-2000; LatestRevisionDate: 17-Jul-2002; LatestRevisionNote: Re-released for DXP Platform.; PackageReference: AXIAL-0.4; Publisher: Altium Limited; PackageDescription: Axial Device, Thru-Hole; 2 Leads; 0.4 in Pin Spacing; Value: 100K
simulation model RESISTOR (Resistor)
signal-integrity model Res
footprint R 0603_M (1/10W贴片电阻                             淘宝ID:黄晶宝石)
footprint R0603_L
pins: 1, 2

## RVE100UF35V67RV0072
designator C?  value 100uF  (hidden comment: RVE100UF35V67RV0072)
Manufacturer: KNSCHA(科尼盛); Add into BOM: yes; Rated Voltage: 35V; Symbol: RVE100UF35V67RV0072; Device: RVE100UF35V67RV0072; LCSC Part Name: 100uF 35V; Supplier Part: C2836437; Manufacturer Part: RVE100UF35V67RV0072; Supplier Footprint: SMD,6.3x7.7mm; Datasheet: https://atta.szlcsc.com/upload/public/pdf/source/20210528/C2836437_5B98297421F11E7F30F986C2C3175AC5.pdf; Supplier: LCSC; Convert to PCB: yes; Tolerance: -; φD: -; L: -; Ripple Current: -; Equivalent Series Resistance(ESR): -; Lifetime @ Temp: -; Operating Temperature: -; JLCPCB Part Class: Extended Part
footprint CM C(5*5.4) (贴片电解电容，直径5mm，高5.4mm            淘宝ID:黄晶宝石)
pins: 1, 2

## rz7899
designator U?  (value not drawn)
Manufacturer: RZ 睿智微; Add into BOM: yes; Symbol: rz7899; Device: rz7899; LCSC Part Name: rz7899; Supplier Part: C92373; Manufacturer Part: rz7899; Supplier Footprint: SOP-8_150mil; JLCPCB Part Class: Extended Part; Datasheet: https://atta.szlcsc.com/upload/public/pdf/source/20170213/1486965283321.pdf; Supplier: LCSC; Convert to PCB: yes
footprint MOTOR_DIRVER-RZ7899
pins: 1 BI, 2 FI, 3 GND, 4 VCC, 5 FO, 6 FO, 7 BO, 8 BO

## SIM8066-6-1-14-01-A_REVA
designator J?
Nano SIM Card ConnectorPush-Push Type, SMT, 6Pin, 1.44mm Profile; MF: Global Connector Technology; SnapEDA_Link: https://www.snapeda.com/parts/SIM8066-6-1-14-01-A/Global%20Connector%20Technology/view-part/5720957/?ref=snap; Value: *; MP: SIM8066-6-1-14-01-A; Package: None; Check_prices: https://www.snapeda.com/parts/SIM8066-6-1-14-01-A/Global%20Connector%20Technology/view-part/5720957/?ref=eda; Price: None; Availability: Unavailable
footprint nano sim
footprint NANO SIM
pins: C1 VCC (power), C2 RST (in), C3 CLK (in), C5 GND (power), C6 VPP (power), C7 I/O (io), CD (io), G1 GND (power), G2 GND (power), G3 GND (power), G4 GND (power)

## SL2.1A
designator U?
BOM_Manufacturer: CoreChips; Contributor: LCSC; BOM_Supplier: LCSC; BOM_Supplier Part: C192893; BOM_Manufacturer Part: SL2.1A; spicePre: U
footprint SOP-16_150MIL
footprint SOP-16_150MIL
footprint SL2.1A
pins: 1 DM4, 2 DP4, 3 DM3, 4 DP3, 5 DM2, 6 DP2, 7 DM1, 8 DP1, 9 DM, 10 DP, 11 VDD5, 12 GND, 13 VDD33, 14 VDD18, 15 XOUT, 16 XIN

## SMA
designator JP?, comment SMA WIFI 天线接口
SMA-2.4G射频天线接口; 版权归属: 封装库来自淘宝 ID：黄晶宝石; BOM名称: SMA-2.4G射频天线接口; 学习资源: https://shop463601444.taobao.com
footprint SMA_FR
footprint SMA-KE (Footprint not found)
footprint SMA-KE-LI (SMA 立式直插射频天线座)
footprint COAXIAL/SMD/CON/V/I-PEX/W08-5801 (https://shop463601444.taobao.com)
pins: 1 ANT, 2 GND, 3 GND

## SS24
designator D?, comment CESDBLC5V0D3
肖特基二极管; 属性: 40V/2A; 当前库版本V2022.10.7 @淘宝卖家:黄晶宝石: 最新版本发布https://shop463601444.taobao.com; BOM名称: 肖特基二极管
footprint SMB (4.7*3.9*2.2mm(长宽高，不包括引脚）)
footprint SOD-323 (1.8x1.3X0.9mm（长宽高，不包括引脚）)
pins: 1 A, 2 K

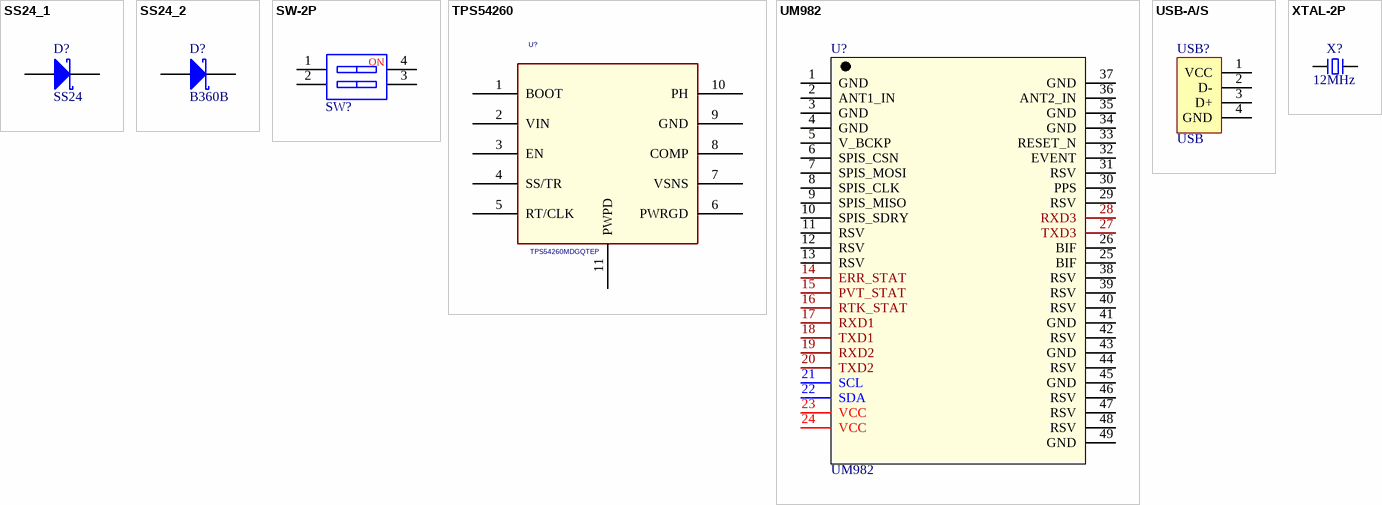
[diagram p2: symbols SS24_1 to XTAL-2P]

## SS24_1
designator D?, comment SS24
肖特基二极管; 属性: 40V/2A; BOM名称: 肖特基二极管; 封装库来自淘宝 ID：黄晶宝石: https://shop463601444.taobao.com
footprint SMB (4.7*3.9*2.2mm(长宽高，不包括引脚）)
pins: 1 A, 2 K

## SS24_2
designator D?, comment B360B
肖特基二极管; 属性: 40V/2A; BOM名称: 肖特基二极管; 封装库来自淘宝 ID：黄晶宝石: https://shop463601444.taobao.com
footprint SMB (4.7*3.9*2.2mm(长宽高，不包括引脚）)
pins: 1 A, 2 K

## SW-2P
designator SW?  (value not drawn)
2路编码开关; 淘宝ID: 黄晶宝石; BOM名称: 2路编码开关; 学习资源: https://shop463601444.taobao.com
footprint CSW DIP-2P (6.6*9.9*7mm)
footprint CSW DIP-2P_G (6.6*9.9*7mm)
footprint CSW1.27 SMD-2P (长：4.14mm，宽：5.4mm，高：2.3mm)
footprint CSW1.27 SMD-2P (长：4.14mm，宽：5.4mm，高：2.3mm          淘宝ID:黄晶宝石)
pins: 1, 2, 3, 4
text: NO

## TPS54260
designator U?, comment TPS54260MDGQTEP
ROOM: DC/DC_3V8; Part Number: TPS54260
footprint sop50p490x120-11n
footprint SOP50P490X110-11N
pins: 1 BOOT, 2 VIN (power), 3 EN, 4 SS/TR, 5 RT/CLK, 6 PWRGD, 7 VSNS, 8 COMP, 9 GND (power), 10 PH, 11 PWPD (power)

## UM982
designator U?
和芯星通，FGA封装板卡
footprint UM982 (LGA封装)
footprint UM982
pins: 1 GND, 2 ANT1_IN, 3 GND, 4 GND, 5 V_BCKP, 6 SPIS_CSN, 7 SPIS_MOSI, 8 SPIS_CLK, 9 SPIS_MISO, 10 SPIS_SDRY, 11 RSV, 12 RSV, 13 RSV, 14 ERR_STAT, 15 PVT_STAT, 16 RTK_STAT, 17 RXD1, 18 TXD1, 19 RXD2, 20 TXD2, 21 SCL, 22 SDA, 23 VCC, 24 VCC, 25 BIF, 26 BIF, 27 TXD3, 28 RXD3, 29 RSV, 30 PPS, 31 RSV, 32 EVENT, 33 RESET_N, 34 GND, 35 GND, 36 ANT2_IN, 37 GND, 38 RSV, 39 RSV, 40 RSV, 41 GND, 42 RSV, 43 GND, 44 RSV, 45 GND, 46 RSV, 47 RSV, 48 RSV, 49 GND

## USB-A/S
designator USB?, comment USB
USB-A型母接口; 版权归属: 封装库来自淘宝 ID：黄晶宝石; BOM名称: USB-A型母接口; 学习资源: https://shop463601444.taobao.com
footprint USB-A/S_B (A型贴片母头，)
footprint USB-A/S_A (A型直插母头，)
footprint USB-A/S_C (A型贴片母头，)
footprint USB-A/S_D (A型直插母头，)
footprint USB-A/S_E (A型直插母头，)
footprint USB-A/S_F (A型侧插短体无卷边 90度母座)
pins: 1 VCC, 2 D-, 3 D+, 4 GND

## XTAL-2P
designator X?, comment 12MHz
2脚无源脚晶振; 版权归属: 源创客; BOM名称: 2脚无源脚晶振; 学习资源: www.ooocke.com
footprint OSC HC-49S
footprint OSC 455E-LI (3.6mm*7mm*9mm(长*宽*高)  脚距5mm)
footprint OSC 455E-WI (3.6mm*7mm*9mm(长*宽*高)  脚距5mm)
footprint OSC 3215-2P (3.2*1.5*0.6mm(长宽高))
footprint OSC 5032-2P (5mm*3.2mm*0.8mm(长*宽*高))
footprint OSC 6035-2P (6mm*3.5mm*1mm(长*宽*高))
footprint OSC 7050-2P (7mm*5mm*1.3mm(长*宽*高))
footprint OSC 8045-2P (8mm*4.5mm*1.8mm(长*宽*高))
footprint OSC-2x6-LI (脚距：1.6mm)
footprint OSC-2x6-WI-A (脚距：1.6mm)
footprint OSC-2x6-WI-B (脚距：1.6mm)
footprint OSC-2x6-WS (脚距：1.6mm)
footprint OSC-3x8-LI (脚距：2mm)
footprint OSC-3x8-WI-A (脚距：2mm)
footprint OSC-3x8-WI-B (脚距：2mm)
footprint OSC-3x8-WS (脚距：2mm)
footprint OSC-3x10-LI (脚距：2mm)
footprint OSC-3x10-WI-A (脚距：2mm)
footprint OSC-3x10-WI-B (脚距：2mm)
footprint OSC-3x10-WS (脚距：2mm)
footprint OSC HC-49SMD
footprint OSC HC-49U
footprint OSC UM-1
footprint OSC UM-5
footprint OSC 3215-2P (3.2*1.5*0.6mm(长宽高)                      淘宝ID:黄晶宝石)
pins: 1, 2